# Altium footprint library 专用封装.PcbLib: 24 footprints (part 2 of 2)
Each footprint in its own frame and in the unit in brackets; x right, y up, seen from the top. Pads: shape width x height; smd on the part's side, far side on the other; paste and mask are expansions set on the pad; w line width, h text height; cw(c..) or ccw(c..) is an arc to the next point about the centre after c.
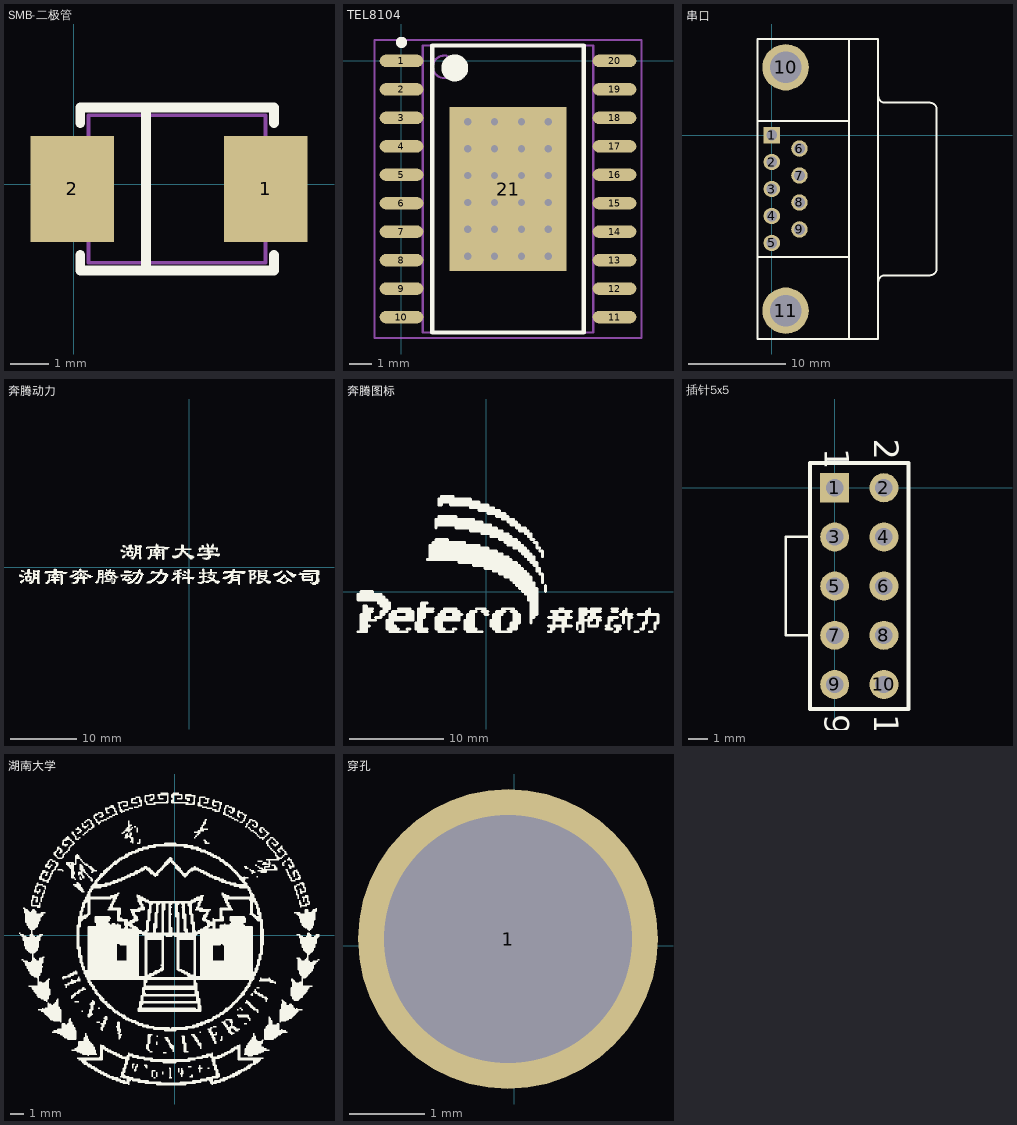
[diagram p1: the footprints below, top view; thin cyan lines are the x and y axes]

## SMB-二极管 [mil]
pads (2):
  rect 85x107.99 smd: 1(195,-5) 2(-1.85,-5)
Top Overlay:
  lines w10: 6.42,-71.93 6.42,-87.68 203.27,-87.68 203.27,-71.93 ; 6.42,61.93 6.42,77.68 203.27,77.68 203.27,61.93 ; 73.35,-87.68 73.35,77.68
Mechanical 13:
  lines w3.94: 14.88,-80 194.8,-80 194.8,70 14.88,70 14.88,-80

## TEL8104 [mm]
pads (21):
  oval 1.95x0.55 smd: 1(0,0) 2(0,-1.27) 3(0,-2.54) 4(0,-3.81) 5(0,-5.08) 6(0,-6.35) 7(0,-7.62) 8(0,-8.89) 9(0,-10.16) 10(0,-11.43) 11(9.5,-11.43) 12(9.5,-10.16) 13(9.5,-8.89) 14(9.5,-7.62) 15(9.5,-6.35) 16(9.5,-5.08) 17(9.5,-3.81) 18(9.5,-2.54) 19(9.5,-1.27) 20(9.5,0)
  rect 5.2x7.3 smd: 21(4.75,-5.715)
via 2.95,-2.715 diameter 0.66 hole 0.33
via 4.15,-2.715 diameter 0.66 hole 0.33
via 5.35,-2.715 diameter 0.66 hole 0.33
via 6.55,-2.715 diameter 0.66 hole 0.33
via 2.95,-3.915 diameter 0.66 hole 0.33
via 4.15,-3.915 diameter 0.66 hole 0.33
via 5.35,-3.915 diameter 0.66 hole 0.33
via 6.55,-3.915 diameter 0.66 hole 0.33
via 2.95,-5.115 diameter 0.66 hole 0.33
via 4.15,-5.115 diameter 0.66 hole 0.33
via 5.35,-5.115 diameter 0.66 hole 0.33
via 6.55,-5.115 diameter 0.66 hole 0.33
via 2.95,-6.315 diameter 0.66 hole 0.33
via 4.15,-6.315 diameter 0.66 hole 0.33
via 5.35,-6.315 diameter 0.66 hole 0.33
via 6.55,-6.315 diameter 0.66 hole 0.33
via 2.95,-7.515 diameter 0.66 hole 0.33
via 4.15,-7.515 diameter 0.66 hole 0.33
via 5.35,-7.515 diameter 0.66 hole 0.33
via 6.55,-7.515 diameter 0.66 hole 0.33
via 2.95,-8.715 diameter 0.66 hole 0.33
via 4.15,-8.715 diameter 0.66 hole 0.33
via 5.35,-8.715 diameter 0.66 hole 0.33
via 6.55,-8.715 diameter 0.66 hole 0.33
Top Overlay:
  circle w0.25: c0,0.825 r0.125
  circle w0.6: c2.375,-0.315 r0.3
  lines w0.2: 1.375,-12.115 1.375,0.685 8.125,0.685 8.125,-12.115 1.375,-12.115
Mechanical 13:
  circle w0.1: c1.9,-0.265 r0.5
  lines w0.1: 0.95,-12.115 0.95,0.685 8.55,0.685 8.55,-12.115 0.95,-12.115
Mechanical 15:
  lines w0.1: 4.25,-5.715 5.25,-5.715 ; 4.75,-6.215 4.75,-5.215 ; -1.2,-12.365 -1.2,0.935 10.7,0.935 10.7,-12.365 -1.2,-12.365
3D body: height 2.55, standoff 0.1, extent 0.95,-12.115 8.55,0.685

## 串口 [mm]
pads (11):
  rect 1.69x1.69 hole 1.09: 1(0,0)
  round 1.69 hole 1.09: 2(0,-2.77) 3(0,-5.54) 4(0,-8.31) 5(0,-11.08) 6(2.84,-1.385) 7(2.84,-4.155) 8(2.84,-6.925) 9(2.84,-9.695)
  round 4.76 hole 3.26: 10(1.42,6.955) 11(1.42,-18.035)
Top Overlay:
  lines w0.2: -1.48,-12.54 7.92,-12.54 ; -1.48,1.46 7.92,1.46 ; 7.92,-20.94 7.92,9.86 ; 10.925,-15.1 cw(c11.62,-15.1) 11.62,-14.405 16.22,-14.405 ; 10.925,4.02 ccw(c11.62,4.02) 11.62,3.325 16.22,3.325 ; 16.225,-14.4 ccw(c16.225,-13.705) 16.92,-13.705 16.92,2.625 ccw(c16.225,2.625) 16.225,3.32 ; -1.48,-20.94 10.92,-20.94 10.92,9.86 -1.48,9.86 -1.48,-20.94

## 奔腾动力 [mm]
Top Overlay:
  drawing of 1471 lines, arcs and shapes, not listed

## 奔腾图标 [mm]
Top Overlay:
  drawing of 375 lines, arcs and shapes, not listed

## 插针5x5 [mm]
pads (10):
  rect 1.5x1.5 hole 0.9: 1(0,0)
  round 1.5 hole 0.9: 2(2.54,0) 3(0,-2.54) 4(2.54,-2.54) 5(0,-5.08) 6(2.54,-5.08) 7(0,-7.62) 8(2.54,-7.62) 9(0,-10.16) 10(2.54,-10.16)
Top Overlay:
  lines w0.127: -1.27,-7.62 -2.54,-7.62 -2.54,-2.54 -1.27,-2.54
  lines w0.2: -1.27,-11.43 -1.27,1.27 3.81,1.27 3.81,-11.43 -1.27,-11.43
  text "10" at 2.032,-11.684 h1.27
  text "9" at -0.508,-11.684 h1.27
  text "1" at -0.508,2.032 h1.27
  text "2" at 2.032,2.54 h1.27

## 湖南大学 [mm]
Top Overlay:
  drawing of 2942 lines, arcs and shapes, not listed

## 穿孔 [mm]
pads (1):
  round 4 hole 3.3: 1(-0.08,0.092)